# Altium schematic symbol library PE2_Schematics.SchLib: 11 symbols
Pins are listed as number, name and electrical type; pins without a type are passive.

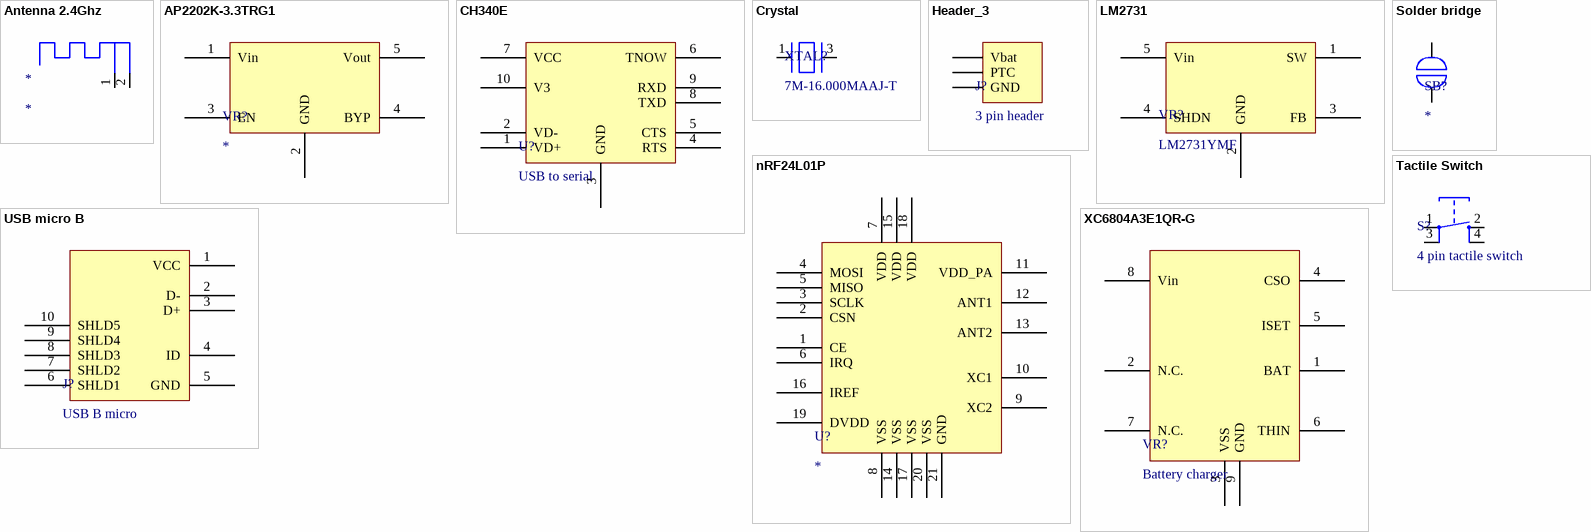
[diagram p0: symbols Antenna 2.4Ghz to XC6804A3E1QR-G]

## Antenna 2.4Ghz
designator *
footprint 2.4Ghz Antenna (PCB Antenna 2.4Ghz, TI AN043)
pins: 1 RF, 2 GND

## AP2202K-3.3TRG1
designator VR?
AP2112K-3.3TRG1 | 3.3V LDO | 2.5V — 13.2V
footprint SOT95P285X130-5N (SOT23, 5-Leads, Body 3,00x2,85mm, Pitch 0,95mm, IPC Medium Density)
pins: 1 Vin, 2 GND, 3 EN, 4 BYP, 5 Vout

## CH340E
designator U?, comment USB to serial
footprint MSOP-10 (USB to serial)
pins: 1 VD+, 2 VD-, 3 GND, 4 RTS, 5 CTS, 6 TNOW, 7 VCC, 8 TXD, 9 RXD, 10 V3

## Crystal
designator XTAL?, comment 7M-16.000MAAJ-T
Crystal, 16 MHz, SMD, 3.2mm x 2.5mm, 30 ppm, 18 pF, 30 ppm, 7M
footprint 16Mhz_Crystal (16Mhz crystal)
pins: 1, 3

## Header_3
designator J?, comment 3 pin header
footprint Header_3
pins: 1 Vbat, 2 PTC, 3 GND

## LM2731
designator VR?, comment LM2731YMF
DC-DC Switching Boost (Step Up) Regulator, Adjustable, 2.7V-14Vin, 1.23V-22Vout, 2Aout, SOT-23-5
footprint SOT23-5 (SOT23, 5-Leads, Body 3,00x2,85mm, Pitch 0,95mm, IPC Medium Density)
pins: 1 SW, 2 GND, 3 FB "R1 = R2 × (VOUT/1.23 − 1)", 4 SHDN, 5 Vin

## nRF24L01P
designator U?
Single Chip Transceiver, 2.4 GHz, 60 mW, 1.9 to 3.6 V, -40 to 85 degC, 20-Pin QFN, RoHS, Tray
footprint QFN20 4x4 (QFN, 20-Leads, Body 4,00x4,00mm, Pitch 0,50mm, Thermal Pad 2,60x2,60mm, IPC Medium Density)
pins: 1 CE, 2 CSN, 3 SCLK, 4 MOSI, 5 MISO, 6 IRQ, 7 VDD, 8 VSS, 9 XC2, 10 XC1, 11 VDD_PA, 12 ANT1, 13 ANT2, 14 VSS, 15 VDD, 16 IREF, 17 VSS, 18 VDD, 19 DVDD, 20 VSS, 21 GND "Thermal Pad"

## Solder bridge
designator SB?
footprint Solder bridge
pins: 3, 4

## Tactile Switch
designator S?, comment 4 pin tactile switch
gekruisde schakelaar (1.4 en 2.3)
footprint TactileSwitch6x6
pins: 1, 2, 3, 4

## USB micro B
designator J?, comment USB B micro
footprint USB Micro B (USB3076)
pins: 1 VCC, 2 D-, 3 D+, 4 ID, 5 GND, 6 SHLD1, 7 SHLD2, 8 SHLD3, 9 SHLD4, 10 SHLD5

## XC6804A3E1QR-G
designator VR?, comment Battery charger
footprint SOP127P600-8N
pins: 1 BAT, 2 N.C. "GND", 3 VSS, 4 CSO, 5 ISET, 6 THIN, 7 N.C. "GND", 8 Vin, 9 GND "Thermal Pad"